# Altium footprint library Custom.PcbLib: 42 footprints (part 2 of 3)
Each footprint in its own frame and in the unit in brackets; x right, y up, seen from the top. Pads: shape width x height; smd on the part's side, far side on the other; paste and mask are expansions set on the pad; w line width, h text height; cw(c..) or ccw(c..) is an arc to the next point about the centre after c.
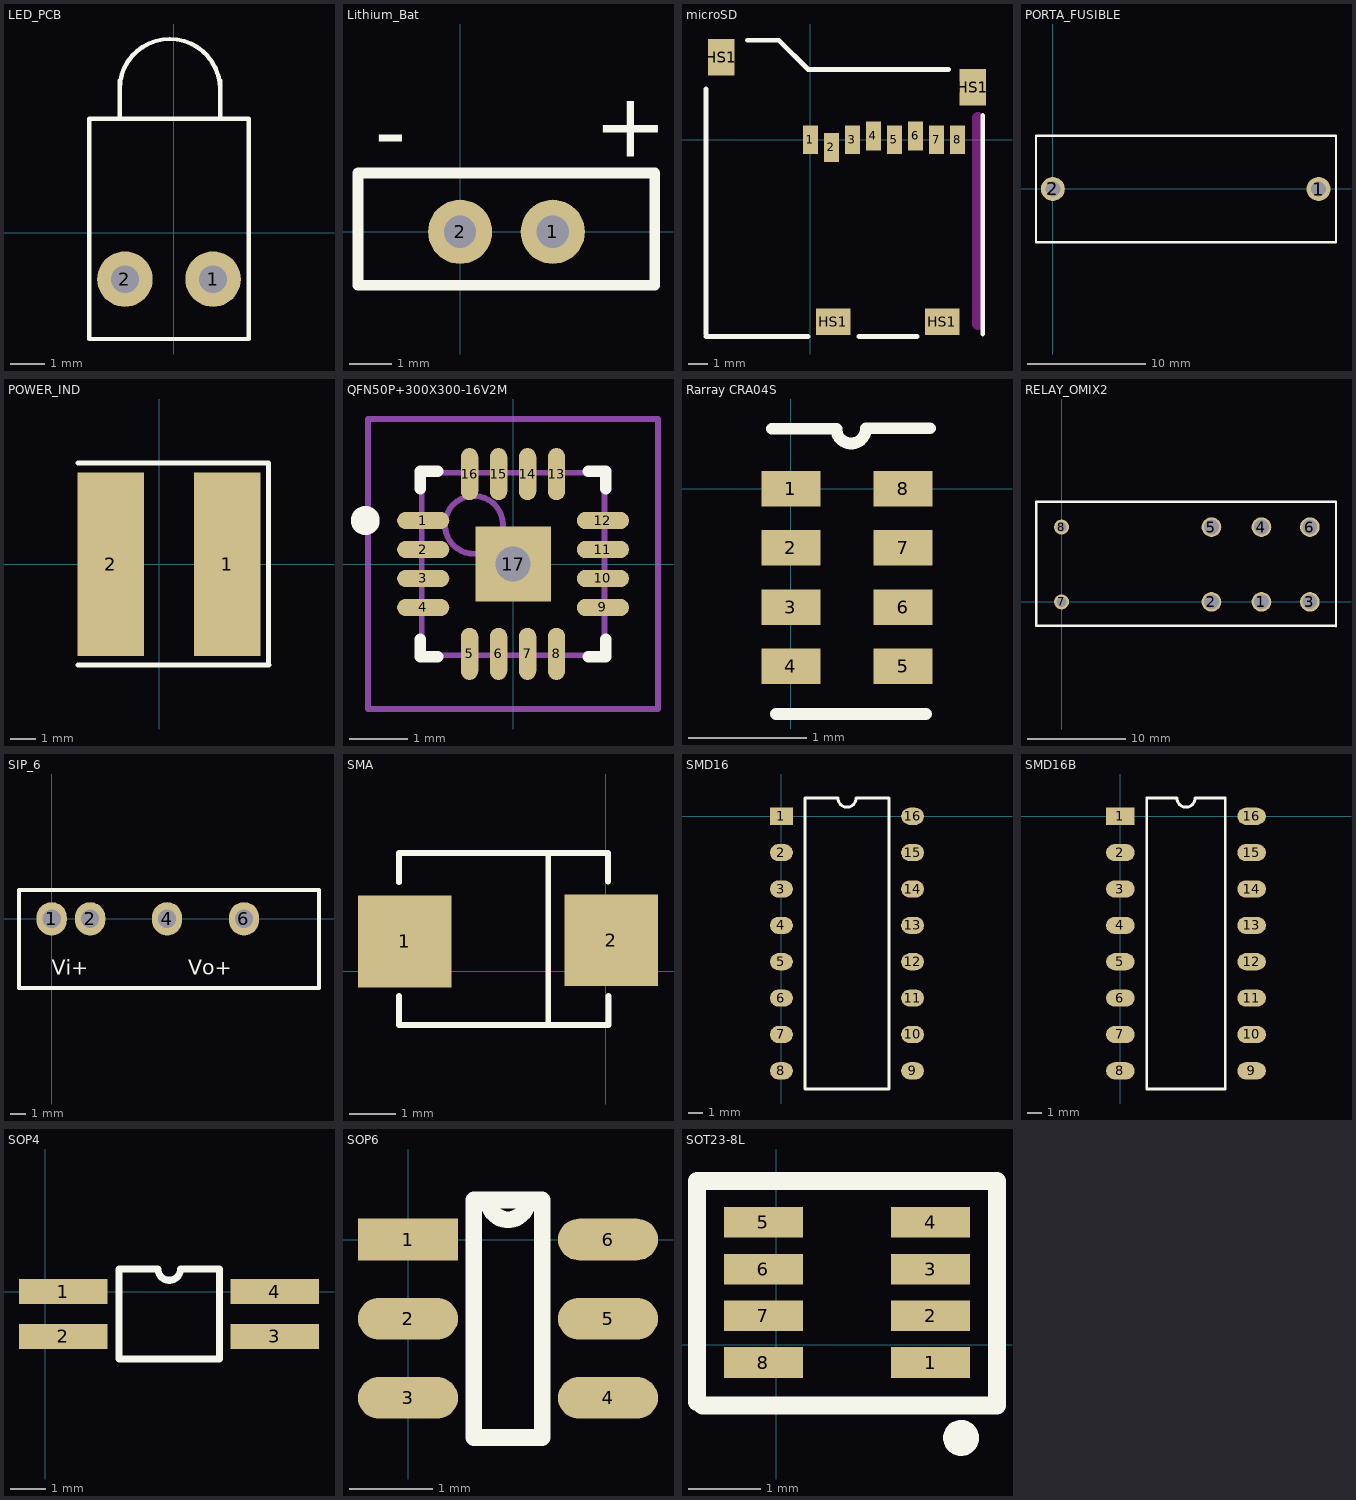
[diagram p1: the footprints below, top view; thin cyan lines are the x and y axes]

## LED_PCB [mm]
height 7.35
pads (2):
  round 1.6 hole 0.8: 1(1.126,-1.333) 2(-1.414,-1.333)
Top Overlay:
  lines w0.127: -1.569,3.292 -1.569,4.392 ; -1.569,4.138 cw(c-0.119,4.138) 1.331,4.138 ; 1.331,3.292 1.331,4.392 ; -2.444,-3.058 2.156,-3.058 2.156,3.292 -2.444,3.292 -2.444,-3.058
Mechanical 1:
  lines w0.025: -1.569,4.138 cw(c-0.119,4.138) 1.331,4.138

## Lithium_Bat [mil]
height 267.72
pads (2):
  round 60 hole 30: 1(86.61,0) 2(0,0)
Top Overlay:
  lines w10: -95.47,-50 182.09,-50 182.09,55 -95.47,55 -95.47,-50
  text "-" at -80,65 h60
  text "+" at 125,70 h60

## microSD [mm]
pads (12):
  rect 0.8x1.5 smd: 1(0,0) 2(1.1,-0.4) 3(2.2,0) 4(3.3,0.2) 5(4.4,0) 6(5.5,0.2) 7(6.6,0) 8(7.7,0)
  rect 1.4x1.9 smd: HS1(-4.66,4.325) HS1(8.49,2.75)
  rect 1.8x1.4 smd: HS1(1.19,-9.525) HS1(6.89,-9.525)
Top Overlay:
  lines w0.254: -5.461,-10.287 -0.127,-10.287 ; -5.461,-10.16 -5.461,2.667 ; -3.302,5.207 -1.651,5.207 -0.127,3.683 7.239,3.683 ; 2.54,-10.287 5.588,-10.287 ; 9.017,-10.16 9.017,1.27
Keep-Out Layer:
  lines w0.6: 8.763,-9.652 8.763,1.143

## PCBComponent_1 [mm]

## PORTA_FUSIBLE [mil]
height 393.7
pads (2):
  round 80 hole 50: 1(885.83,0) 2(0,0)
Top Overlay:
  lines w7.87: -56.1,-177.17 -56.1,177.17 943.9,177.17 943.9,-177.17 -56.1,-177.17

## POWER_IND [mm]
height 3
pads (2):
  rect 2.65x7.3 smd: 1(2.7,0) 2(-1.925,0)
Top Overlay:
  lines w0.2: -3.225,-4 4.353,-4.003 ; -3.225,4.025 4.35,4.025 ; 4.35,-3.95 4.35,4

## QFN50P+300X300-16V2M [mm] "QFN, 16-Leads, Body 3x3mm, Pitch 0.5mm, IPC Low Density"
height 1
pads (17):
  oval 0.9x0.3 smd: 1(-1.55,0.75) 2(-1.55,0.25) 3(-1.55,-0.25) 4(-1.55,-0.75) 9(1.55,-0.75) 10(1.55,-0.25) 11(1.55,0.25) 12(1.55,0.75)
  oval 0.3x0.9 smd: 5(-0.75,-1.55) 6(-0.25,-1.55) 7(0.25,-1.55) 8(0.75,-1.55) 13(0.75,1.55) 14(0.25,1.55) 15(-0.25,1.55) 16(-0.75,1.55)
  rect 1.3x1.3 hole 0.6: 17(0,0)
Top Overlay:
  circle w0.25: c-2.55,0.75 r0.125
  lines w0.2: -1.6,-1.3 -1.6,-1.6 -1.3,-1.6 ; -1.6,1.3 -1.6,1.6 -1.3,1.6 ; 1.3,-1.6 1.6,-1.6 1.6,-1.3 ; 1.3,1.6 1.6,1.6 1.6,1.3
Mechanical 13:
  circle w0.1: c-0.675,0.675 r0.5
  lines w0.1: -1.575,-1.575 1.575,-1.575 1.575,1.575 -1.575,1.575 -1.575,-1.575
Mechanical 15:
  lines w0.1: -0.5,0 0.5,0 ; 0,-0.5 0,0.5 ; -2.5,-2.5 2.5,-2.5 2.5,2.5 -2.5,2.5 -2.5,-2.5
3D body: height 1, standoff 0, extent -1.575,-1.575 1.575,1.575

## Rarray CRA04S [mm]
pads (8):
  rect 0.5x0.3 smd: 1(0,0) 2(0,-0.5) 3(0,-1) 4(0,-1.5) 5(0.95,-1.5) 6(0.95,-1) 7(0.95,-0.5) 8(0.95,0)
Top Overlay:
  lines w0.1: -0.162,0.508 0.385,0.508 ccw(c0.51,0.508) 0.635,0.508 ; -0.127,-1.905 1.143,-1.905 ; 0.635,0.512 1.178,0.512

## RELAY_OMIX2 [mm] "2 Pole Miniature Power PCB Relay"
height 0.021
pads (8):
  round 2 hole 1.5: 1(20.32,0) 2(15.24,0) 3(25.24,0) 4(20.32,7.6) 5(15.24,7.6) 6(25.24,7.6)
  round 1.524 hole 1: 7(0,0) 8(0,7.6)
Top Overlay:
  lines w0.254: -2.6,-2.45 -2.575,-2.35 -2.575,10.175 27.9,10.175 27.9,-2.475 27.875,-2.45 -2.6,-2.45

## SIP_6 [mm]
pads (4):
  oval 2x2.2 hole 1.2: 1(0,0) 2(2.54,0) 4(7.62,0) 6(12.7,0)
Top Overlay:
  lines w0.254: -2.159,-4.572 -2.159,1.905 17.653,1.905 17.653,-4.572 -2.159,-4.572
  text "Vi+" at 0,-3.683 h1
  text "Vo+" at 9.017,-3.683 h1

## SMA [mm]
height 2.6
pads (2):
  rect 2.032x2 smd: 1(-4.375,0.65) 2(0.125,0.675)
Top Overlay:
  lines w0.127: -4.5,-0.538 -4.5,-1.173 0.062,-1.173 0.062,-0.538 ; -4.5,1.938 -4.5,2.573 0.05,2.575 0.05,1.95 ; -1.25,-1.1 -1.25,2.55

## SMD16 [mm]
pads (16):
  rect 1.6x1.2 smd: 1(0,0)
  oval 1.6x1.2 smd: 2(0,-2.54) 3(0,-5.08) 4(0,-7.62) 5(0,-10.16) 6(0,-12.7) 7(0,-15.24) 8(0,-17.78) 9(9.16,-17.78) 10(9.16,-15.24) 11(9.16,-12.7) 12(9.16,-10.16) 13(9.16,-7.62) 14(9.16,-5.08) 15(9.16,-2.54) 16(9.16,0)
Top Overlay:
  lines w0.2: 1.635,-19.05 1.635,1.27 3.945,1.27 ccw(c4.58,1.27) 5.215,1.27 7.525,1.27 7.525,-19.05 1.635,-19.05

## SMD16B [mm]
pads (16):
  rect 2x1.2 smd: 1(0,0)
  oval 2x1.2 smd: 2(0,-2.54) 3(0,-5.08) 4(0,-7.62) 5(0,-10.16) 6(0,-12.7) 7(0,-15.24) 8(0,-17.78) 9(9.16,-17.78) 10(9.16,-15.24) 11(9.16,-12.7) 12(9.16,-10.16) 13(9.16,-7.62) 14(9.16,-5.08) 15(9.16,-2.54) 16(9.16,0)
Top Overlay:
  lines w0.2: 1.835,-19.05 1.835,1.27 3.945,1.27 ccw(c4.58,1.27) 5.215,1.27 7.325,1.27 7.325,-19.05 1.835,-19.05

## SOP4 [mm]
height 2
pads (4):
  rect 2.5x0.7 smd: 1(0.508,0) 2(0.508,-1.27) 3(6.477,-1.27) 4(6.477,0)
Top Overlay:
  lines w0.2: 2.085,-1.905 4.915,-1.905 4.915,0.635 3.818,0.635 cw(c3.5,0.635) 3.183,0.635 2.085,0.635 2.085,-1.905

## SOP6 [mm]
pads (6):
  rect 1.2x0.5 smd: 1(0,0)
  oval 1.2x0.5 smd: 2(0,-0.95) 3(0,-1.9) 4(2.4,-1.9) 5(2.4,-0.95) 6(2.4,0)
Top Overlay:
  lines w0.2: 0.79,-2.375 0.79,0.475 1.438,0.475 cw(c1.2,0.475) 0.962,0.475 1.61,0.475 1.61,-2.375 0.79,-2.375

## SOT23-8L [mm]
height 1
pads (8):
  rect 1.1x0.425 smd: 1(2.15,-0.25) 2(2.15,0.4) 3(2.15,1.05) 4(2.15,1.7) 5(-0.175,1.7) 6(-0.175,1.05) 7(-0.175,0.4) 8(-0.175,-0.25)
Top Overlay:
  circle w0.25: c2.575,-1.3 r0.125
  lines w0.254: -1.1,-0.8 -1.1,2.275 3.075,2.275 3.075,-0.85 -1.025,-0.85